# EAGLE library part 1050270001 (library Shared Libraries)
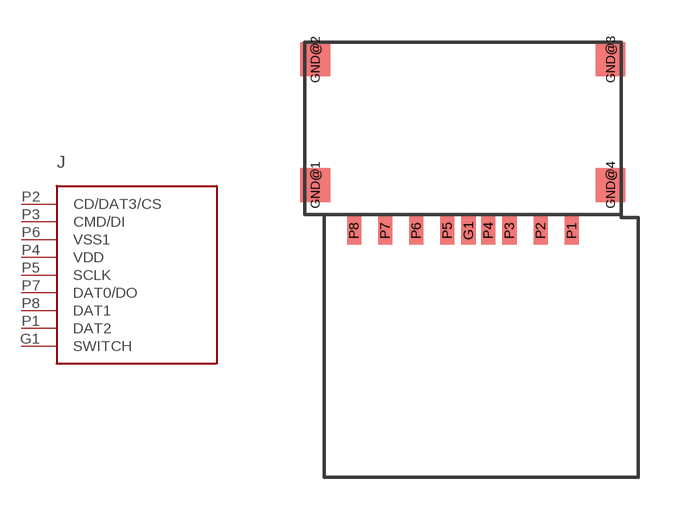
[diagram p14: symbol with the pads of 1050270001; footprint 1050270001]

Designator prefix J

## 1050270001  [1050270001]
G1  SWITCH
P1  DAT2
P2  CD/DAT3/CS
P3  CMD/DI
P4  VDD
P5  SCLK
P6  VSS1
P7  DAT0/DO
P8  DAT1

## Footprint 1050270001 (pad centres in mm)
smd 0.5 x 1: G1 0.2,-6.66; P1 3.85,-6.66; P2 2.75,-6.66; P3 1.65,-6.66; P4 0.9,-6.66; P5 -0.55,-6.66; P6 -1.65,-6.66; P7 -2.75,-6.66; P8 -3.85,-6.66
smd 1.05 x 1.2: GND@1 -5.225,-5.05; GND@2 -5.225,-0.6; GND@3 5.225,-0.6; GND@4 5.225,-5.05